# Altium integrated library Motorola Microcontroller 8-Bit.IntLib: 909 symbols (part 25 of 31)
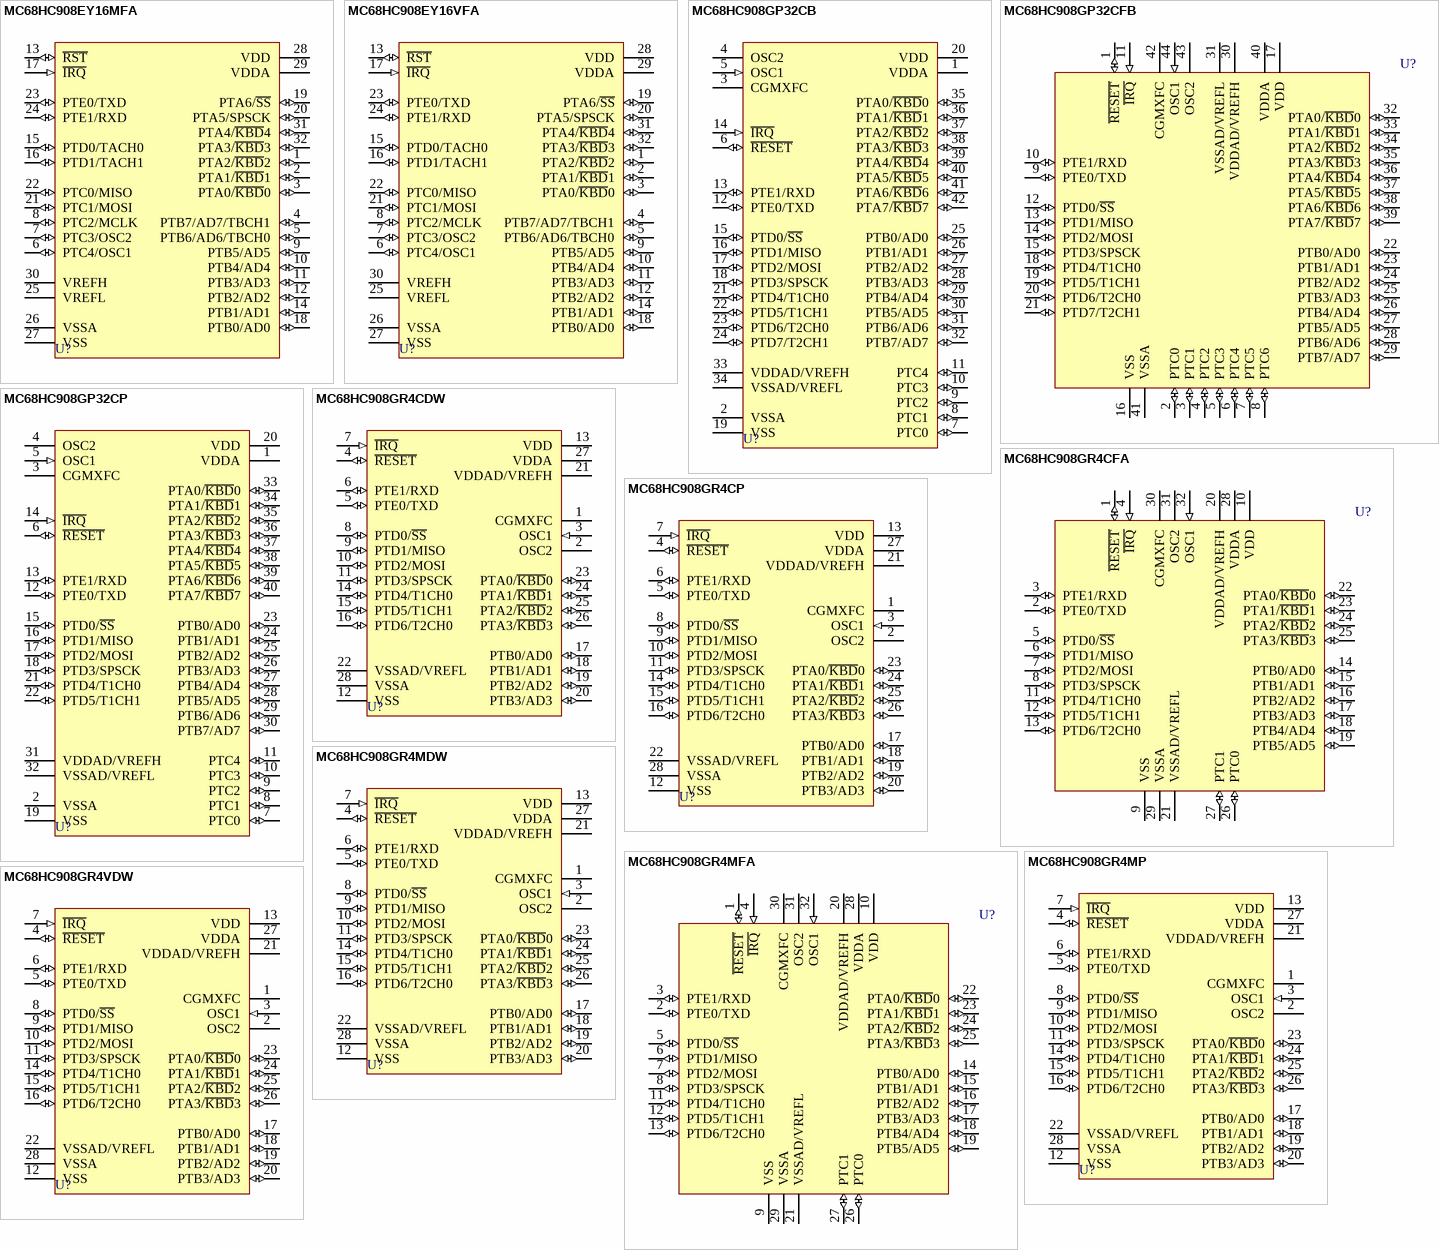
[diagram p137: symbols MC68HC908EY16MFA to MC68HC908GR4VDW]

## MC68HC908GP32CFB
designator U?
8-Bit Microcontroller; Note: Tie unused inputs & I/O ports to the appropriate logic level (either VDD or VSS ) to reduce the possibility of electro-static discharge damage.; Published: 17-Jan-2003; LatestRevisionDate: 13-Apr-2006; LatestRevisionNote: IPC-7351 Footprint Added.; DatasheetVersion: Rev 6, 8/2002; PackageVersion: rev5, Apr-2002; PackageReference: 824A-01; Publisher: Altium Limited; PackageDescription: 44-Pin Quad Flat Pack 0.8 mm Pitch; Code_JEDEC: MS-022-AB; Code_IPC: QFP80P1320X1320-44; ComponentLink1Description: Manufacturer Link; ComponentLink1URL: http://www.freescale.com/; ComponentLink2Description: Datasheet; ComponentLink2URL: http://www.freescale.com/files/microcontrollers/doc/data_sheet/MC68HC908GP32.pdf
footprint 824A-01_N (QFP, 44-Leads, Body 10x10mm, Pitch 0.8mm, IPC Medium Density)
footprint 824A-01_L (QFP, 44-Leads, Body 10x10mm, Pitch 0.8mm, IPC High Density)
footprint 824A-01_M (QFP, 44-Leads, Body 10x10mm, Pitch 0.8mm, IPC Low Density)
3D model MC68HC908-824A-01 (44-Pin Quad Flat Pack 0.8 mm Pitch)
pins: 1 ~{RESET} (io), 2 PTC0 (io), 3 PTC1 (io), 4 PTC2 (io), 5 PTC3 (io), 6 PTC4 (io), 7 PTC5 (io), 8 PTC6 (io), 9 PTE0/TXD (io), 10 PTE1/RXD (io), 11 ~{IRQ} (in), 12 PTD0/~{SS} (io), 13 PTD1/MISO (io), 14 PTD2/MOSI (io), 15 PTD3/SPSCK (io), 16 VSS (power), 17 VDD (power), 18 PTD4/T1CH0 (io), 19 PTD5/T1CH1 (io), 20 PTD6/T2CH0 (io), 21 PTD7/T2CH1 (io), 22 PTB0/AD0 (io), 23 PTB1/AD1 (io), 24 PTB2/AD2 (io), 25 PTB3/AD3 (io), 26 PTB4/AD4 (io), 27 PTB5/AD5 (io), 28 PTB6/AD6 (io), 29 PTB7/AD7 (io), 30 VDDAD/VREFH (power), 31 VSSAD/VREFL (power), 32 PTA0/~{KBD}0 (io), 33 PTA1/~{KBD}1 (io), 34 PTA2/~{KBD}2 (io), 35 PTA3/~{KBD}3 (io), 36 PTA4/~{KBD}4 (io), 37 PTA5/~{KBD}5 (io), 38 PTA6/~{KBD}6 (io), 39 PTA7/~{KBD}7 (io), 40 VDDA (power), 41 VSSA (power), 42 CGMXFC, 43 OSC2, 44 OSC1 (in)

## MC68HC908GP32CP
designator U?
8-Bit Microcontroller; Note: Tie unused inputs & I/O ports to the appropriate logic level (either VDD or VSS ) to reduce the possibility of electro-static discharge damage.; Published: 17-Jan-2003; LatestRevisionDate: 06-Jun-2005; LatestRevisionNote: Stylized 3D Model Added.; DatasheetVersion: Rev 6, 8/2002; PackageReference: 711-03; Publisher: Altium Limited; PackageDescription: DIP; 40 Leads; Row Spacing 15.24 mm; Pitch 2.54 mm; ComponentLink1Description: Manufacturer Link; ComponentLink1URL: http://www.freescale.com/; ComponentLink2Description: Datasheet; ComponentLink2URL: http://www.freescale.com/files/microcontrollers/doc/data_sheet/MC68HC908GP32.pdf
footprint 711-03 (DIP; 40 Leads; Row Spacing 15.24 mm; Pitch 2.54 mm)
3D model 711-03 (DIP; 40 Leads; Row Spacing 15.24 mm; Pitch 2.54 mm)
pins: 1 VDDA (power), 2 VSSA (power), 3 CGMXFC, 4 OSC2, 5 OSC1 (in), 6 ~{RESET} (io), 7 PTC0 (io), 8 PTC1 (io), 9 PTC2 (io), 10 PTC3 (io), 11 PTC4 (io), 12 PTE0/TXD (io), 13 PTE1/RXD (io), 14 ~{IRQ} (in), 15 PTD0/~{SS} (io), 16 PTD1/MISO (io), 17 PTD2/MOSI (io), 18 PTD3/SPSCK (io), 19 VSS (power), 20 VDD (power), 21 PTD4/T1CH0 (io), 22 PTD5/T1CH1 (io), 23 PTB0/AD0 (io), 24 PTB1/AD1 (io), 25 PTB2/AD2 (io), 26 PTB3/AD3 (io), 27 PTB4/AD4 (io), 28 PTB5/AD5 (io), 29 PTB6/AD6 (io), 30 PTB7/AD7 (io), 31 VDDAD/VREFH (power), 32 VSSAD/VREFL (power), 33 PTA0/~{KBD}0 (io), 34 PTA1/~{KBD}1 (io), 35 PTA2/~{KBD}2 (io), 36 PTA3/~{KBD}3 (io), 37 PTA4/~{KBD}4 (io), 38 PTA5/~{KBD}5 (io), 39 PTA6/~{KBD}6 (io), 40 PTA7/~{KBD}7 (io)

## MC68HC908GR4CDW
designator U?
8-Bit Microcontroller; Note: VREFH is internally connected with VDDAD (same potential as VDDAD).  VDDAD should be tied to the same potential as VDD via separate traces.; Note: VREFL is internally connected with VSSAD (same potential as VSSAD).  VSSAD should be tied to the same potential as VSS via separate traces.; Note: Tie unused inputs & I/O ports to the appropriate logic level (either VDD or VSS ) to reduce the possibility of electro-static discharge damage.; Published: 17-Jan-2003; LatestRevisionDate: 13-Apr-2006; LatestRevisionNote: IPC-7351 Footprint Added.; DatasheetVersion: Rev 4, 6/2002; PackageReference: 751F-03; Publisher: Altium Limited; PackageDescription: 28-Pin Small Outline Integrated Circuit 1.27 mm Pitch; ComponentLink1Description: Manufacturer Link; ComponentLink1URL: http://www.freescale.com/
footprint 751F-03_N (SOIC, 28-Leads, Body 17.9x7.5mm, Pitch 1.27mm, IPC Medium Density)
footprint 751F-03_L (SOIC, 28-Leads, Body 17.9x7.5mm, Pitch 1.27mm, IPC High Density)
footprint 751F-03_M (SOIC, 28-Leads, Body 17.9x7.5mm, Pitch 1.27mm, IPC Low Density)
3D model 751F-03 (28-Pin Small Outline Integrated Circuit 1.27 mm Pitch)
pins: 1 CGMXFC, 2 OSC2, 3 OSC1 (in), 4 ~{RESET} (io), 5 PTE0/TXD (io), 6 PTE1/RXD (io), 7 ~{IRQ} (in), 8 PTD0/~{SS} (io), 9 PTD1/MISO (io), 10 PTD2/MOSI (io), 11 PTD3/SPSCK (io), 12 VSS (power), 13 VDD (power), 14 PTD4/T1CH0 (io), 15 PTD5/T1CH1 (io), 16 PTD6/T2CH0 (io), 17 PTB0/AD0 (io), 18 PTB1/AD1 (io), 19 PTB2/AD2 (io), 20 PTB3/AD3 (io), 21 VDDAD/VREFH (power), 22 VSSAD/VREFL (power), 23 PTA0/~{KBD}0 (io), 24 PTA1/~{KBD}1 (io), 25 PTA2/~{KBD}2 (io), 26 PTA3/~{KBD}3 (io), 27 VDDA (power), 28 VSSA (power)

## MC68HC908GR4CFA
designator U?
8-Bit Microcontroller; Note: VREFH is internally connected with VDDAD (same potential as VDDAD).  VDDAD should be tied to the same potential as VDD via separate traces.; Note: VREFL is internally connected with VSSAD (same potential as VSSAD).  VSSAD should be tied to the same potential as VSS via separate traces.; Note: Tie unused inputs & I/O ports to the appropriate logic level (either VDD or VSS ) to reduce the possibility of electro-static discharge damage.; Published: 17-Jan-2003; LatestRevisionDate: 13-Apr-2006; LatestRevisionNote: IPC-7351 Footprint Added.; DatasheetVersion: Rev 4, 6/2002; PackageVersion: Aug-2001; PackageReference: 873A-02; Publisher: Altium Limited; PackageDescription: 32-Pin Thin Quad Flat Pack 0.8 mm Pitch; ComponentLink1Description: Manufacturer Link; ComponentLink1URL: http://www.freescale.com/
footprint 873A-02_N (Thin QFP, 32-Leads, Body 7x7mm, Pitch 0.8mm, IPC Medium Density)
footprint 873A-02_L (Thin QFP, 32-Leads, Body 7x7mm, Pitch 0.8mm, IPC High Density)
footprint 873A-02_M (Thin QFP, 32-Leads, Body 7x7mm, Pitch 0.8mm, IPC Low Density)
3D model MC68HC908-873A-02 (32-Pin Thin Quad Flat Pack 0.8 mm Pitch)
pins: 1 ~{RESET} (io), 2 PTE0/TXD (io), 3 PTE1/RXD (io), 4 ~{IRQ} (in), 5 PTD0/~{SS} (io), 6 PTD1/MISO (io), 7 PTD2/MOSI (io), 8 PTD3/SPSCK (io), 9 VSS (power), 10 VDD (power), 11 PTD4/T1CH0 (io), 12 PTD5/T1CH1 (io), 13 PTD6/T2CH0 (io), 14 PTB0/AD0 (io), 15 PTB1/AD1 (io), 16 PTB2/AD2 (io), 17 PTB3/AD3 (io), 18 PTB4/AD4 (io), 19 PTB5/AD5 (io), 20 VDDAD/VREFH (power), 21 VSSAD/VREFL (power), 22 PTA0/~{KBD}0 (io), 23 PTA1/~{KBD}1 (io), 24 PTA2/~{KBD}2 (io), 25 PTA3/~{KBD}3 (io), 26 PTC0 (io), 27 PTC1 (io), 28 VDDA (power), 29 VSSA (power), 30 CGMXFC, 31 OSC2, 32 OSC1 (in)

## MC68HC908GR4CP
designator U?
8-Bit Microcontroller; Note: VREFH is internally connected with VDDAD (same potential as VDDAD).  VDDAD should be tied to the same potential as VDD via separate traces.; Note: VREFL is internally connected with VSSAD (same potential as VSSAD).  VSSAD should be tied to the same potential as VSS via separate traces.; Note: Tie unused inputs & I/O ports to the appropriate logic level (either VDD or VSS ) to reduce the possibility of electro-static discharge damage.; Published: 17-Jan-2003; LatestRevisionDate: 06-Jun-2005; LatestRevisionNote: Stylized 3D Model Added.; DatasheetVersion: Rev 4, 6/2002; PackageReference: 710-02; Publisher: Altium Limited; PackageDescription: DIP; 28 Leads; Row Spacing 15.24 mm; Pitch 2.54 mm; ComponentLink1Description: Manufacturer Link; ComponentLink1URL: http://www.freescale.com/
footprint 710-02 (DIP; 28 Leads; Row Spacing 15.24 mm; Pitch 2.54 mm)
3D model 710-02 (DIP; 28 Leads; Row Spacing 15.24 mm; Pitch 2.54 mm)
pins: 1 CGMXFC, 2 OSC2, 3 OSC1 (in), 4 ~{RESET} (io), 5 PTE0/TXD (io), 6 PTE1/RXD (io), 7 ~{IRQ} (in), 8 PTD0/~{SS} (io), 9 PTD1/MISO (io), 10 PTD2/MOSI (io), 11 PTD3/SPSCK (io), 12 VSS (power), 13 VDD (power), 14 PTD4/T1CH0 (io), 15 PTD5/T1CH1 (io), 16 PTD6/T2CH0 (io), 17 PTB0/AD0 (io), 18 PTB1/AD1 (io), 19 PTB2/AD2 (io), 20 PTB3/AD3 (io), 21 VDDAD/VREFH (power), 22 VSSAD/VREFL (power), 23 PTA0/~{KBD}0 (io), 24 PTA1/~{KBD}1 (io), 25 PTA2/~{KBD}2 (io), 26 PTA3/~{KBD}3 (io), 27 VDDA (power), 28 VSSA (power)

## MC68HC908GR4MDW
designator U?
8-Bit Microcontroller; Note: VREFH is internally connected with VDDAD (same potential as VDDAD).  VDDAD should be tied to the same potential as VDD via separate traces.; Note: VREFL is internally connected with VSSAD (same potential as VSSAD).  VSSAD should be tied to the same potential as VSS via separate traces.; Note: Tie unused inputs & I/O ports to the appropriate logic level (either VDD or VSS ) to reduce the possibility of electro-static discharge damage.; Published: 17-Jan-2003; LatestRevisionDate: 13-Apr-2006; LatestRevisionNote: IPC-7351 Footprint Added.; DatasheetVersion: Rev 4, 6/2002; PackageReference: 751F-03; Publisher: Altium Limited; PackageDescription: 28-Pin Small Outline Integrated Circuit 1.27 mm Pitch; ComponentLink1Description: Manufacturer Link; ComponentLink1URL: http://www.freescale.com/
footprint 751F-03_N (SOIC, 28-Leads, Body 17.9x7.5mm, Pitch 1.27mm, IPC Medium Density)
footprint 751F-03_L (SOIC, 28-Leads, Body 17.9x7.5mm, Pitch 1.27mm, IPC High Density)
footprint 751F-03_M (SOIC, 28-Leads, Body 17.9x7.5mm, Pitch 1.27mm, IPC Low Density)
3D model 751F-03 (28-Pin Small Outline Integrated Circuit 1.27 mm Pitch)
pins: 1 CGMXFC, 2 OSC2, 3 OSC1 (in), 4 ~{RESET} (io), 5 PTE0/TXD (io), 6 PTE1/RXD (io), 7 ~{IRQ} (in), 8 PTD0/~{SS} (io), 9 PTD1/MISO (io), 10 PTD2/MOSI (io), 11 PTD3/SPSCK (io), 12 VSS (power), 13 VDD (power), 14 PTD4/T1CH0 (io), 15 PTD5/T1CH1 (io), 16 PTD6/T2CH0 (io), 17 PTB0/AD0 (io), 18 PTB1/AD1 (io), 19 PTB2/AD2 (io), 20 PTB3/AD3 (io), 21 VDDAD/VREFH (power), 22 VSSAD/VREFL (power), 23 PTA0/~{KBD}0 (io), 24 PTA1/~{KBD}1 (io), 25 PTA2/~{KBD}2 (io), 26 PTA3/~{KBD}3 (io), 27 VDDA (power), 28 VSSA (power)

## MC68HC908GR4MFA
designator U?
8-Bit Microcontroller; Note: VREFH is internally connected with VDDAD (same potential as VDDAD).  VDDAD should be tied to the same potential as VDD via separate traces.; Note: VREFL is internally connected with VSSAD (same potential as VSSAD).  VSSAD should be tied to the same potential as VSS via separate traces.; Note: Tie unused inputs & I/O ports to the appropriate logic level (either VDD or VSS ) to reduce the possibility of electro-static discharge damage.; Published: 17-Jan-2003; LatestRevisionDate: 13-Apr-2006; LatestRevisionNote: IPC-7351 Footprint Added.; DatasheetVersion: Rev 4, 6/2002; PackageVersion: Aug-2001; PackageReference: 873A-02; Publisher: Altium Limited; PackageDescription: 32-Pin Thin Quad Flat Pack 0.8 mm Pitch; ComponentLink1Description: Manufacturer Link; ComponentLink1URL: http://www.freescale.com/
footprint 873A-02_N (Thin QFP, 32-Leads, Body 7x7mm, Pitch 0.8mm, IPC Medium Density)
footprint 873A-02_L (Thin QFP, 32-Leads, Body 7x7mm, Pitch 0.8mm, IPC High Density)
footprint 873A-02_M (Thin QFP, 32-Leads, Body 7x7mm, Pitch 0.8mm, IPC Low Density)
3D model MC68HC908-873A-02 (32-Pin Thin Quad Flat Pack 0.8 mm Pitch)
pins: 1 ~{RESET} (io), 2 PTE0/TXD (io), 3 PTE1/RXD (io), 4 ~{IRQ} (in), 5 PTD0/~{SS} (io), 6 PTD1/MISO (io), 7 PTD2/MOSI (io), 8 PTD3/SPSCK (io), 9 VSS (power), 10 VDD (power), 11 PTD4/T1CH0 (io), 12 PTD5/T1CH1 (io), 13 PTD6/T2CH0 (io), 14 PTB0/AD0 (io), 15 PTB1/AD1 (io), 16 PTB2/AD2 (io), 17 PTB3/AD3 (io), 18 PTB4/AD4 (io), 19 PTB5/AD5 (io), 20 VDDAD/VREFH (power), 21 VSSAD/VREFL (power), 22 PTA0/~{KBD}0 (io), 23 PTA1/~{KBD}1 (io), 24 PTA2/~{KBD}2 (io), 25 PTA3/~{KBD}3 (io), 26 PTC0 (io), 27 PTC1 (io), 28 VDDA (power), 29 VSSA (power), 30 CGMXFC, 31 OSC2, 32 OSC1 (in)

## MC68HC908GR4MP
designator U?
8-Bit Microcontroller; Note: VREFH is internally connected with VDDAD (same potential as VDDAD).  VDDAD should be tied to the same potential as VDD via separate traces.; Note: VREFL is internally connected with VSSAD (same potential as VSSAD).  VSSAD should be tied to the same potential as VSS via separate traces.; Note: Tie unused inputs & I/O ports to the appropriate logic level (either VDD or VSS ) to reduce the possibility of electro-static discharge damage.; Published: 17-Jan-2003; LatestRevisionDate: 06-Jun-2005; LatestRevisionNote: Stylized 3D Model Added.; DatasheetVersion: Rev 4, 6/2002; PackageReference: 710-02; Publisher: Altium Limited; PackageDescription: DIP; 28 Leads; Row Spacing 15.24 mm; Pitch 2.54 mm; ComponentLink1Description: Manufacturer Link; ComponentLink1URL: http://www.freescale.com/
footprint 710-02 (DIP; 28 Leads; Row Spacing 15.24 mm; Pitch 2.54 mm)
3D model 710-02 (DIP; 28 Leads; Row Spacing 15.24 mm; Pitch 2.54 mm)
pins: 1 CGMXFC, 2 OSC2, 3 OSC1 (in), 4 ~{RESET} (io), 5 PTE0/TXD (io), 6 PTE1/RXD (io), 7 ~{IRQ} (in), 8 PTD0/~{SS} (io), 9 PTD1/MISO (io), 10 PTD2/MOSI (io), 11 PTD3/SPSCK (io), 12 VSS (power), 13 VDD (power), 14 PTD4/T1CH0 (io), 15 PTD5/T1CH1 (io), 16 PTD6/T2CH0 (io), 17 PTB0/AD0 (io), 18 PTB1/AD1 (io), 19 PTB2/AD2 (io), 20 PTB3/AD3 (io), 21 VDDAD/VREFH (power), 22 VSSAD/VREFL (power), 23 PTA0/~{KBD}0 (io), 24 PTA1/~{KBD}1 (io), 25 PTA2/~{KBD}2 (io), 26 PTA3/~{KBD}3 (io), 27 VDDA (power), 28 VSSA (power)

## MC68HC908GR4VDW
designator U?
8-Bit Microcontroller; Note: VREFH is internally connected with VDDAD (same potential as VDDAD).  VDDAD should be tied to the same potential as VDD via separate traces.; Note: VREFL is internally connected with VSSAD (same potential as VSSAD).  VSSAD should be tied to the same potential as VSS via separate traces.; Note: Tie unused inputs & I/O ports to the appropriate logic level (either VDD or VSS ) to reduce the possibility of electro-static discharge damage.; Published: 17-Jan-2003; LatestRevisionDate: 13-Apr-2006; LatestRevisionNote: IPC-7351 Footprint Added.; DatasheetVersion: Rev 4, 6/2002; PackageReference: 751F-03; Publisher: Altium Limited; PackageDescription: 28-Pin Small Outline Integrated Circuit 1.27 mm Pitch; ComponentLink1Description: Manufacturer Link; ComponentLink1URL: http://www.freescale.com/
footprint 751F-03_N (SOIC, 28-Leads, Body 17.9x7.5mm, Pitch 1.27mm, IPC Medium Density)
footprint 751F-03_L (SOIC, 28-Leads, Body 17.9x7.5mm, Pitch 1.27mm, IPC High Density)
footprint 751F-03_M (SOIC, 28-Leads, Body 17.9x7.5mm, Pitch 1.27mm, IPC Low Density)
3D model 751F-03 (28-Pin Small Outline Integrated Circuit 1.27 mm Pitch)
pins: 1 CGMXFC, 2 OSC2, 3 OSC1 (in), 4 ~{RESET} (io), 5 PTE0/TXD (io), 6 PTE1/RXD (io), 7 ~{IRQ} (in), 8 PTD0/~{SS} (io), 9 PTD1/MISO (io), 10 PTD2/MOSI (io), 11 PTD3/SPSCK (io), 12 VSS (power), 13 VDD (power), 14 PTD4/T1CH0 (io), 15 PTD5/T1CH1 (io), 16 PTD6/T2CH0 (io), 17 PTB0/AD0 (io), 18 PTB1/AD1 (io), 19 PTB2/AD2 (io), 20 PTB3/AD3 (io), 21 VDDAD/VREFH (power), 22 VSSAD/VREFL (power), 23 PTA0/~{KBD}0 (io), 24 PTA1/~{KBD}1 (io), 25 PTA2/~{KBD}2 (io), 26 PTA3/~{KBD}3 (io), 27 VDDA (power), 28 VSSA (power)

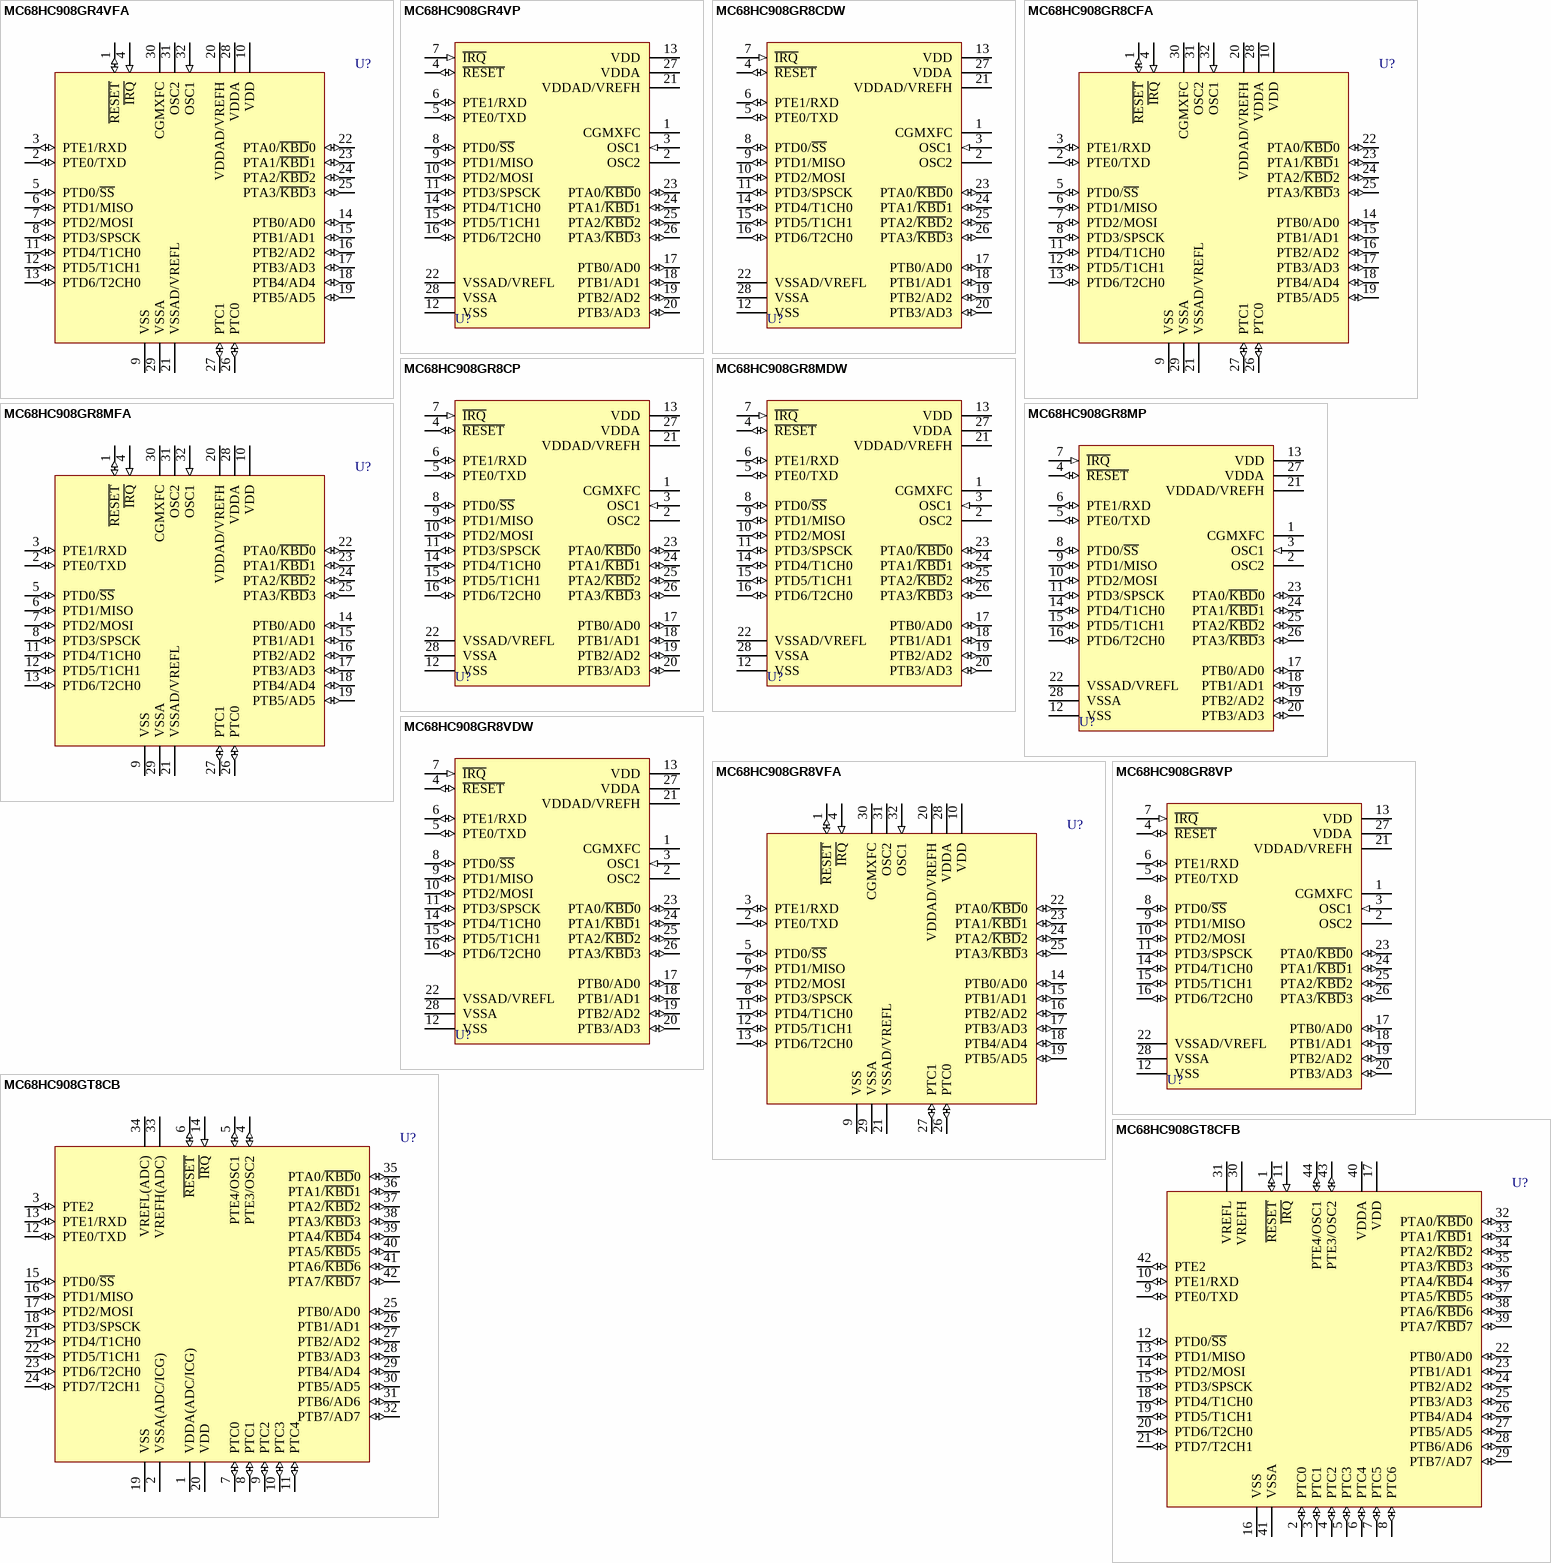
[diagram p94: symbols MC68HC908GR4VFA to MC68HC908GT8CFB]

## MC68HC908GR4VFA
designator U?
8-Bit Microcontroller; Note: VREFH is internally connected with VDDAD (same potential as VDDAD).  VDDAD should be tied to the same potential as VDD via separate traces.; Note: VREFL is internally connected with VSSAD (same potential as VSSAD).  VSSAD should be tied to the same potential as VSS via separate traces.; Note: Tie unused inputs & I/O ports to the appropriate logic level (either VDD or VSS ) to reduce the possibility of electro-static discharge damage.; Published: 17-Jan-2003; LatestRevisionDate: 13-Apr-2006; LatestRevisionNote: IPC-7351 Footprint Added.; DatasheetVersion: Rev 4, 6/2002; PackageVersion: Aug-2001; PackageReference: 873A-02; Publisher: Altium Limited; PackageDescription: 32-Pin Thin Quad Flat Pack 0.8 mm Pitch; ComponentLink1Description: Manufacturer Link; ComponentLink1URL: http://www.freescale.com/
footprint 873A-02_N (Thin QFP, 32-Leads, Body 7x7mm, Pitch 0.8mm, IPC Medium Density)
footprint 873A-02_L (Thin QFP, 32-Leads, Body 7x7mm, Pitch 0.8mm, IPC High Density)
footprint 873A-02_M (Thin QFP, 32-Leads, Body 7x7mm, Pitch 0.8mm, IPC Low Density)
3D model MC68HC908-873A-02 (32-Pin Thin Quad Flat Pack 0.8 mm Pitch)
pins: 1 ~{RESET} (io), 2 PTE0/TXD (io), 3 PTE1/RXD (io), 4 ~{IRQ} (in), 5 PTD0/~{SS} (io), 6 PTD1/MISO (io), 7 PTD2/MOSI (io), 8 PTD3/SPSCK (io), 9 VSS (power), 10 VDD (power), 11 PTD4/T1CH0 (io), 12 PTD5/T1CH1 (io), 13 PTD6/T2CH0 (io), 14 PTB0/AD0 (io), 15 PTB1/AD1 (io), 16 PTB2/AD2 (io), 17 PTB3/AD3 (io), 18 PTB4/AD4 (io), 19 PTB5/AD5 (io), 20 VDDAD/VREFH (power), 21 VSSAD/VREFL (power), 22 PTA0/~{KBD}0 (io), 23 PTA1/~{KBD}1 (io), 24 PTA2/~{KBD}2 (io), 25 PTA3/~{KBD}3 (io), 26 PTC0 (io), 27 PTC1 (io), 28 VDDA (power), 29 VSSA (power), 30 CGMXFC, 31 OSC2, 32 OSC1 (in)

## MC68HC908GR4VP
designator U?
8-Bit Microcontroller; Note: VREFH is internally connected with VDDAD (same potential as VDDAD).  VDDAD should be tied to the same potential as VDD via separate traces.; Note: VREFL is internally connected with VSSAD (same potential as VSSAD).  VSSAD should be tied to the same potential as VSS via separate traces.; Note: Tie unused inputs & I/O ports to the appropriate logic level (either VDD or VSS ) to reduce the possibility of electro-static discharge damage.; Published: 17-Jan-2003; LatestRevisionDate: 06-Jun-2005; LatestRevisionNote: Stylized 3D Model Added.; DatasheetVersion: Rev 4, 6/2002; PackageReference: 710-02; Publisher: Altium Limited; PackageDescription: DIP; 28 Leads; Row Spacing 15.24 mm; Pitch 2.54 mm; ComponentLink1Description: Manufacturer Link; ComponentLink1URL: http://www.freescale.com/
footprint 710-02 (DIP; 28 Leads; Row Spacing 15.24 mm; Pitch 2.54 mm)
3D model 710-02 (DIP; 28 Leads; Row Spacing 15.24 mm; Pitch 2.54 mm)
pins: 1 CGMXFC, 2 OSC2, 3 OSC1 (in), 4 ~{RESET} (io), 5 PTE0/TXD (io), 6 PTE1/RXD (io), 7 ~{IRQ} (in), 8 PTD0/~{SS} (io), 9 PTD1/MISO (io), 10 PTD2/MOSI (io), 11 PTD3/SPSCK (io), 12 VSS (power), 13 VDD (power), 14 PTD4/T1CH0 (io), 15 PTD5/T1CH1 (io), 16 PTD6/T2CH0 (io), 17 PTB0/AD0 (io), 18 PTB1/AD1 (io), 19 PTB2/AD2 (io), 20 PTB3/AD3 (io), 21 VDDAD/VREFH (power), 22 VSSAD/VREFL (power), 23 PTA0/~{KBD}0 (io), 24 PTA1/~{KBD}1 (io), 25 PTA2/~{KBD}2 (io), 26 PTA3/~{KBD}3 (io), 27 VDDA (power), 28 VSSA (power)

## MC68HC908GR8CDW
designator U?
8-Bit Microcontroller; Note: VREFH is internally connected with VDDAD (same potential as VDDAD).  VDDAD should be tied to the same potential as VDD via separate traces.; Note: VREFL is internally connected with VSSAD (same potential as VSSAD).  VSSAD should be tied to the same potential as VSS via separate traces.; Note: Tie unused inputs & I/O ports to the appropriate logic level (either VDD or VSS ) to reduce the possibility of electro-static discharge damage.; Published: 17-Jan-2003; LatestRevisionDate: 13-Apr-2006; LatestRevisionNote: IPC-7351 Footprint Added.; DatasheetVersion: Rev 4, 6/2002; PackageReference: 751F-03; Publisher: Altium Limited; PackageDescription: 28-Pin Small Outline Integrated Circuit 1.27 mm Pitch; ComponentLink1Description: Manufacturer Link; ComponentLink1URL: http://www.freescale.com/
footprint 751F-03_N (SOIC, 28-Leads, Body 17.9x7.5mm, Pitch 1.27mm, IPC Medium Density)
footprint 751F-03_L (SOIC, 28-Leads, Body 17.9x7.5mm, Pitch 1.27mm, IPC High Density)
footprint 751F-03_M (SOIC, 28-Leads, Body 17.9x7.5mm, Pitch 1.27mm, IPC Low Density)
3D model 751F-03 (28-Pin Small Outline Integrated Circuit 1.27 mm Pitch)
pins: 1 CGMXFC, 2 OSC2, 3 OSC1 (in), 4 ~{RESET} (io), 5 PTE0/TXD (io), 6 PTE1/RXD (io), 7 ~{IRQ} (in), 8 PTD0/~{SS} (io), 9 PTD1/MISO (io), 10 PTD2/MOSI (io), 11 PTD3/SPSCK (io), 12 VSS (power), 13 VDD (power), 14 PTD4/T1CH0 (io), 15 PTD5/T1CH1 (io), 16 PTD6/T2CH0 (io), 17 PTB0/AD0 (io), 18 PTB1/AD1 (io), 19 PTB2/AD2 (io), 20 PTB3/AD3 (io), 21 VDDAD/VREFH (power), 22 VSSAD/VREFL (power), 23 PTA0/~{KBD}0 (io), 24 PTA1/~{KBD}1 (io), 25 PTA2/~{KBD}2 (io), 26 PTA3/~{KBD}3 (io), 27 VDDA (power), 28 VSSA (power)

## MC68HC908GR8CFA
designator U?
8-Bit Microcontroller; Note: VREFH is internally connected with VDDAD (same potential as VDDAD).  VDDAD should be tied to the same potential as VDD via separate traces.; Note: VREFL is internally connected with VSSAD (same potential as VSSAD).  VSSAD should be tied to the same potential as VSS via separate traces.; Note: Tie unused inputs & I/O ports to the appropriate logic level (either VDD or VSS ) to reduce the possibility of electro-static discharge damage.; Published: 17-Jan-2003; LatestRevisionDate: 13-Apr-2006; LatestRevisionNote: IPC-7351 Footprint Added.; DatasheetVersion: Rev 4, 6/2002; PackageVersion: Aug-2001; PackageReference: 873A-02; Publisher: Altium Limited; PackageDescription: 32-Pin Thin Quad Flat Pack 0.8 mm Pitch; ComponentLink1Description: Manufacturer Link; ComponentLink1URL: http://www.freescale.com/
footprint 873A-02_N (Thin QFP, 32-Leads, Body 7x7mm, Pitch 0.8mm, IPC Medium Density)
footprint 873A-02_L (Thin QFP, 32-Leads, Body 7x7mm, Pitch 0.8mm, IPC High Density)
footprint 873A-02_M (Thin QFP, 32-Leads, Body 7x7mm, Pitch 0.8mm, IPC Low Density)
3D model MC68HC908-873A-02 (32-Pin Thin Quad Flat Pack 0.8 mm Pitch)
pins: 1 ~{RESET} (io), 2 PTE0/TXD (io), 3 PTE1/RXD (io), 4 ~{IRQ} (in), 5 PTD0/~{SS} (io), 6 PTD1/MISO (io), 7 PTD2/MOSI (io), 8 PTD3/SPSCK (io), 9 VSS (power), 10 VDD (power), 11 PTD4/T1CH0 (io), 12 PTD5/T1CH1 (io), 13 PTD6/T2CH0 (io), 14 PTB0/AD0 (io), 15 PTB1/AD1 (io), 16 PTB2/AD2 (io), 17 PTB3/AD3 (io), 18 PTB4/AD4 (io), 19 PTB5/AD5 (io), 20 VDDAD/VREFH (power), 21 VSSAD/VREFL (power), 22 PTA0/~{KBD}0 (io), 23 PTA1/~{KBD}1 (io), 24 PTA2/~{KBD}2 (io), 25 PTA3/~{KBD}3 (io), 26 PTC0 (io), 27 PTC1 (io), 28 VDDA (power), 29 VSSA (power), 30 CGMXFC, 31 OSC2, 32 OSC1 (in)

## MC68HC908GR8CP
designator U?
8-Bit Microcontroller; Note: VREFH is internally connected with VDDAD (same potential as VDDAD).  VDDAD should be tied to the same potential as VDD via separate traces.; Note: VREFL is internally connected with VSSAD (same potential as VSSAD).  VSSAD should be tied to the same potential as VSS via separate traces.; Note: Tie unused inputs & I/O ports to the appropriate logic level (either VDD or VSS ) to reduce the possibility of electro-static discharge damage.; Published: 17-Jan-2003; LatestRevisionDate: 06-Jun-2005; LatestRevisionNote: Stylized 3D Model Added.; DatasheetVersion: Rev 4, 6/2002; PackageReference: 710-02; Publisher: Altium Limited; PackageDescription: DIP; 28 Leads; Row Spacing 15.24 mm; Pitch 2.54 mm; ComponentLink1Description: Manufacturer Link; ComponentLink1URL: http://www.freescale.com/
footprint 710-02 (DIP; 28 Leads; Row Spacing 15.24 mm; Pitch 2.54 mm)
3D model 710-02 (DIP; 28 Leads; Row Spacing 15.24 mm; Pitch 2.54 mm)
pins: 1 CGMXFC, 2 OSC2, 3 OSC1 (in), 4 ~{RESET} (io), 5 PTE0/TXD (io), 6 PTE1/RXD (io), 7 ~{IRQ} (in), 8 PTD0/~{SS} (io), 9 PTD1/MISO (io), 10 PTD2/MOSI (io), 11 PTD3/SPSCK (io), 12 VSS (power), 13 VDD (power), 14 PTD4/T1CH0 (io), 15 PTD5/T1CH1 (io), 16 PTD6/T2CH0 (io), 17 PTB0/AD0 (io), 18 PTB1/AD1 (io), 19 PTB2/AD2 (io), 20 PTB3/AD3 (io), 21 VDDAD/VREFH (power), 22 VSSAD/VREFL (power), 23 PTA0/~{KBD}0 (io), 24 PTA1/~{KBD}1 (io), 25 PTA2/~{KBD}2 (io), 26 PTA3/~{KBD}3 (io), 27 VDDA (power), 28 VSSA (power)

## MC68HC908GR8MDW
designator U?
8-Bit Microcontroller; Note: VREFH is internally connected with VDDAD (same potential as VDDAD).  VDDAD should be tied to the same potential as VDD via separate traces.; Note: VREFL is internally connected with VSSAD (same potential as VSSAD).  VSSAD should be tied to the same potential as VSS via separate traces.; Note: Tie unused inputs & I/O ports to the appropriate logic level (either VDD or VSS ) to reduce the possibility of electro-static discharge damage.; Published: 17-Jan-2003; LatestRevisionDate: 13-Apr-2006; LatestRevisionNote: IPC-7351 Footprint Added.; DatasheetVersion: Rev 4, 6/2002; PackageReference: 751F-03; Publisher: Altium Limited; PackageDescription: 28-Pin Small Outline Integrated Circuit 1.27 mm Pitch; ComponentLink1Description: Manufacturer Link; ComponentLink1URL: http://www.freescale.com/
footprint 751F-03_N (SOIC, 28-Leads, Body 17.9x7.5mm, Pitch 1.27mm, IPC Medium Density)
footprint 751F-03_L (SOIC, 28-Leads, Body 17.9x7.5mm, Pitch 1.27mm, IPC High Density)
footprint 751F-03_M (SOIC, 28-Leads, Body 17.9x7.5mm, Pitch 1.27mm, IPC Low Density)
3D model 751F-03 (28-Pin Small Outline Integrated Circuit 1.27 mm Pitch)
pins: 1 CGMXFC, 2 OSC2, 3 OSC1 (in), 4 ~{RESET} (io), 5 PTE0/TXD (io), 6 PTE1/RXD (io), 7 ~{IRQ} (in), 8 PTD0/~{SS} (io), 9 PTD1/MISO (io), 10 PTD2/MOSI (io), 11 PTD3/SPSCK (io), 12 VSS (power), 13 VDD (power), 14 PTD4/T1CH0 (io), 15 PTD5/T1CH1 (io), 16 PTD6/T2CH0 (io), 17 PTB0/AD0 (io), 18 PTB1/AD1 (io), 19 PTB2/AD2 (io), 20 PTB3/AD3 (io), 21 VDDAD/VREFH (power), 22 VSSAD/VREFL (power), 23 PTA0/~{KBD}0 (io), 24 PTA1/~{KBD}1 (io), 25 PTA2/~{KBD}2 (io), 26 PTA3/~{KBD}3 (io), 27 VDDA (power), 28 VSSA (power)

## MC68HC908GR8MFA
designator U?
8-Bit Microcontroller; Note: VREFH is internally connected with VDDAD (same potential as VDDAD).  VDDAD should be tied to the same potential as VDD via separate traces.; Note: VREFL is internally connected with VSSAD (same potential as VSSAD).  VSSAD should be tied to the same potential as VSS via separate traces.; Note: Tie unused inputs & I/O ports to the appropriate logic level (either VDD or VSS ) to reduce the possibility of electro-static discharge damage.; Published: 17-Jan-2003; LatestRevisionDate: 13-Apr-2006; LatestRevisionNote: IPC-7351 Footprint Added.; DatasheetVersion: Rev 4, 6/2002; PackageVersion: Aug-2001; PackageReference: 873A-02; Publisher: Altium Limited; PackageDescription: 32-Pin Thin Quad Flat Pack 0.8 mm Pitch; ComponentLink1Description: Manufacturer Link; ComponentLink1URL: http://www.freescale.com/
footprint 873A-02_N (Thin QFP, 32-Leads, Body 7x7mm, Pitch 0.8mm, IPC Medium Density)
footprint 873A-02_L (Thin QFP, 32-Leads, Body 7x7mm, Pitch 0.8mm, IPC High Density)
footprint 873A-02_M (Thin QFP, 32-Leads, Body 7x7mm, Pitch 0.8mm, IPC Low Density)
3D model MC68HC908-873A-02 (32-Pin Thin Quad Flat Pack 0.8 mm Pitch)
pins: 1 ~{RESET} (io), 2 PTE0/TXD (io), 3 PTE1/RXD (io), 4 ~{IRQ} (in), 5 PTD0/~{SS} (io), 6 PTD1/MISO (io), 7 PTD2/MOSI (io), 8 PTD3/SPSCK (io), 9 VSS (power), 10 VDD (power), 11 PTD4/T1CH0 (io), 12 PTD5/T1CH1 (io), 13 PTD6/T2CH0 (io), 14 PTB0/AD0 (io), 15 PTB1/AD1 (io), 16 PTB2/AD2 (io), 17 PTB3/AD3 (io), 18 PTB4/AD4 (io), 19 PTB5/AD5 (io), 20 VDDAD/VREFH (power), 21 VSSAD/VREFL (power), 22 PTA0/~{KBD}0 (io), 23 PTA1/~{KBD}1 (io), 24 PTA2/~{KBD}2 (io), 25 PTA3/~{KBD}3 (io), 26 PTC0 (io), 27 PTC1 (io), 28 VDDA (power), 29 VSSA (power), 30 CGMXFC, 31 OSC2, 32 OSC1 (in)

## MC68HC908GR8MP
designator U?
8-Bit Microcontroller; Note: VREFH is internally connected with VDDAD (same potential as VDDAD).  VDDAD should be tied to the same potential as VDD via separate traces.; Note: VREFL is internally connected with VSSAD (same potential as VSSAD).  VSSAD should be tied to the same potential as VSS via separate traces.; Note: Tie unused inputs & I/O ports to the appropriate logic level (either VDD or VSS ) to reduce the possibility of electro-static discharge damage.; Published: 17-Jan-2003; LatestRevisionDate: 06-Jun-2005; LatestRevisionNote: Stylized 3D Model Added.; DatasheetVersion: Rev 4, 6/2002; PackageReference: 710-02; Publisher: Altium Limited; PackageDescription: DIP; 28 Leads; Row Spacing 15.24 mm; Pitch 2.54 mm; ComponentLink1Description: Manufacturer Link; ComponentLink1URL: http://www.freescale.com/
footprint 710-02 (DIP; 28 Leads; Row Spacing 15.24 mm; Pitch 2.54 mm)
3D model 710-02 (DIP; 28 Leads; Row Spacing 15.24 mm; Pitch 2.54 mm)
pins: 1 CGMXFC, 2 OSC2, 3 OSC1 (in), 4 ~{RESET} (io), 5 PTE0/TXD (io), 6 PTE1/RXD (io), 7 ~{IRQ} (in), 8 PTD0/~{SS} (io), 9 PTD1/MISO (io), 10 PTD2/MOSI (io), 11 PTD3/SPSCK (io), 12 VSS (power), 13 VDD (power), 14 PTD4/T1CH0 (io), 15 PTD5/T1CH1 (io), 16 PTD6/T2CH0 (io), 17 PTB0/AD0 (io), 18 PTB1/AD1 (io), 19 PTB2/AD2 (io), 20 PTB3/AD3 (io), 21 VDDAD/VREFH (power), 22 VSSAD/VREFL (power), 23 PTA0/~{KBD}0 (io), 24 PTA1/~{KBD}1 (io), 25 PTA2/~{KBD}2 (io), 26 PTA3/~{KBD}3 (io), 27 VDDA (power), 28 VSSA (power)

## MC68HC908GR8VDW
designator U?
8-Bit Microcontroller; Note: VREFH is internally connected with VDDAD (same potential as VDDAD).  VDDAD should be tied to the same potential as VDD via separate traces.; Note: VREFL is internally connected with VSSAD (same potential as VSSAD).  VSSAD should be tied to the same potential as VSS via separate traces.; Note: Tie unused inputs & I/O ports to the appropriate logic level (either VDD or VSS ) to reduce the possibility of electro-static discharge damage.; Published: 17-Jan-2003; LatestRevisionDate: 13-Apr-2006; LatestRevisionNote: IPC-7351 Footprint Added.; DatasheetVersion: Rev 4, 6/2002; PackageReference: 751F-03; Publisher: Altium Limited; PackageDescription: 28-Pin Small Outline Integrated Circuit 1.27 mm Pitch; ComponentLink1Description: Manufacturer Link; ComponentLink1URL: http://www.freescale.com/
footprint 751F-03_N (SOIC, 28-Leads, Body 17.9x7.5mm, Pitch 1.27mm, IPC Medium Density)
footprint 751F-03_L (SOIC, 28-Leads, Body 17.9x7.5mm, Pitch 1.27mm, IPC High Density)
footprint 751F-03_M (SOIC, 28-Leads, Body 17.9x7.5mm, Pitch 1.27mm, IPC Low Density)
3D model 751F-03 (28-Pin Small Outline Integrated Circuit 1.27 mm Pitch)
pins: 1 CGMXFC, 2 OSC2, 3 OSC1 (in), 4 ~{RESET} (io), 5 PTE0/TXD (io), 6 PTE1/RXD (io), 7 ~{IRQ} (in), 8 PTD0/~{SS} (io), 9 PTD1/MISO (io), 10 PTD2/MOSI (io), 11 PTD3/SPSCK (io), 12 VSS (power), 13 VDD (power), 14 PTD4/T1CH0 (io), 15 PTD5/T1CH1 (io), 16 PTD6/T2CH0 (io), 17 PTB0/AD0 (io), 18 PTB1/AD1 (io), 19 PTB2/AD2 (io), 20 PTB3/AD3 (io), 21 VDDAD/VREFH (power), 22 VSSAD/VREFL (power), 23 PTA0/~{KBD}0 (io), 24 PTA1/~{KBD}1 (io), 25 PTA2/~{KBD}2 (io), 26 PTA3/~{KBD}3 (io), 27 VDDA (power), 28 VSSA (power)

## MC68HC908GR8VFA
designator U?
8-Bit Microcontroller; Note: VREFH is internally connected with VDDAD (same potential as VDDAD).  VDDAD should be tied to the same potential as VDD via separate traces.; Note: VREFL is internally connected with VSSAD (same potential as VSSAD).  VSSAD should be tied to the same potential as VSS via separate traces.; Note: Tie unused inputs & I/O ports to the appropriate logic level (either VDD or VSS ) to reduce the possibility of electro-static discharge damage.; Published: 17-Jan-2003; LatestRevisionDate: 13-Apr-2006; LatestRevisionNote: IPC-7351 Footprint Added.; DatasheetVersion: Rev 4, 6/2002; PackageVersion: Aug-2001; PackageReference: 873A-02; Publisher: Altium Limited; PackageDescription: 32-Pin Thin Quad Flat Pack 0.8 mm Pitch; ComponentLink1Description: Manufacturer Link; ComponentLink1URL: http://www.freescale.com/
footprint 873A-02_N (Thin QFP, 32-Leads, Body 7x7mm, Pitch 0.8mm, IPC Medium Density)
footprint 873A-02_L (Thin QFP, 32-Leads, Body 7x7mm, Pitch 0.8mm, IPC High Density)
footprint 873A-02_M (Thin QFP, 32-Leads, Body 7x7mm, Pitch 0.8mm, IPC Low Density)
3D model MC68HC908-873A-02 (32-Pin Thin Quad Flat Pack 0.8 mm Pitch)
pins: 1 ~{RESET} (io), 2 PTE0/TXD (io), 3 PTE1/RXD (io), 4 ~{IRQ} (in), 5 PTD0/~{SS} (io), 6 PTD1/MISO (io), 7 PTD2/MOSI (io), 8 PTD3/SPSCK (io), 9 VSS (power), 10 VDD (power), 11 PTD4/T1CH0 (io), 12 PTD5/T1CH1 (io), 13 PTD6/T2CH0 (io), 14 PTB0/AD0 (io), 15 PTB1/AD1 (io), 16 PTB2/AD2 (io), 17 PTB3/AD3 (io), 18 PTB4/AD4 (io), 19 PTB5/AD5 (io), 20 VDDAD/VREFH (power), 21 VSSAD/VREFL (power), 22 PTA0/~{KBD}0 (io), 23 PTA1/~{KBD}1 (io), 24 PTA2/~{KBD}2 (io), 25 PTA3/~{KBD}3 (io), 26 PTC0 (io), 27 PTC1 (io), 28 VDDA (power), 29 VSSA (power), 30 CGMXFC, 31 OSC2, 32 OSC1 (in)

## MC68HC908GR8VP
designator U?
8-Bit Microcontroller; Note: VREFH is internally connected with VDDAD (same potential as VDDAD).  VDDAD should be tied to the same potential as VDD via separate traces.; Note: VREFL is internally connected with VSSAD (same potential as VSSAD).  VSSAD should be tied to the same potential as VSS via separate traces.; Note: Tie unused inputs & I/O ports to the appropriate logic level (either VDD or VSS ) to reduce the possibility of electro-static discharge damage.; Published: 17-Jan-2003; LatestRevisionDate: 06-Jun-2005; LatestRevisionNote: Stylized 3D Model Added.; DatasheetVersion: Rev 4, 6/2002; PackageReference: 710-02; Publisher: Altium Limited; PackageDescription: DIP; 28 Leads; Row Spacing 15.24 mm; Pitch 2.54 mm; ComponentLink1Description: Manufacturer Link; ComponentLink1URL: http://www.freescale.com/
footprint 710-02 (DIP; 28 Leads; Row Spacing 15.24 mm; Pitch 2.54 mm)
3D model 710-02 (DIP; 28 Leads; Row Spacing 15.24 mm; Pitch 2.54 mm)
pins: 1 CGMXFC, 2 OSC2, 3 OSC1 (in), 4 ~{RESET} (io), 5 PTE0/TXD (io), 6 PTE1/RXD (io), 7 ~{IRQ} (in), 8 PTD0/~{SS} (io), 9 PTD1/MISO (io), 10 PTD2/MOSI (io), 11 PTD3/SPSCK (io), 12 VSS (power), 13 VDD (power), 14 PTD4/T1CH0 (io), 15 PTD5/T1CH1 (io), 16 PTD6/T2CH0 (io), 17 PTB0/AD0 (io), 18 PTB1/AD1 (io), 19 PTB2/AD2 (io), 20 PTB3/AD3 (io), 21 VDDAD/VREFH (power), 22 VSSAD/VREFL (power), 23 PTA0/~{KBD}0 (io), 24 PTA1/~{KBD}1 (io), 25 PTA2/~{KBD}2 (io), 26 PTA3/~{KBD}3 (io), 27 VDDA (power), 28 VSSA (power)

## MC68HC908GT8CB
designator U?
8-Bit Microcontroller; Note: Tie unused inputs & I/O ports to the appropriate logic level (either VDD or VSS ) to reduce the possibility of electro-static discharge damage.; Published: 17-Jan-2003; LatestRevisionDate: 06-Jun-2005; LatestRevisionNote: Stylized 3D Model Added.; DatasheetVersion: Rev 2, 6/2002; PackageVersion: rev5, Apr-2002; PackageReference: 858-01; Publisher: Altium Limited; PackageDescription: DIP, Plastic; 42 Leads; Row Spacing 15.24 mm; Pitch 1.778 mm; ComponentLink1Description: Manufacturer Link; ComponentLink1URL: http://www.freescale.com/; ComponentLink2Description: Datasheet; ComponentLink2URL: http://www.freescale.com/files/microcontrollers/doc/data_sheet/MC68HC908GT16.pdf
footprint 858-01 (DIP, Plastic; 42 Leads; Row Spacing 15.24 mm; Pitch 1.778 mm)
3D model 858-01 (DIP, Plastic; 42 Leads; Row Spacing 15.24 mm; Pitch 1.778 mm)
pins: 1 VDDA(ADC/ICG) (power), 2 VSSA(ADC/ICG) (power), 3 PTE2 (io), 4 PTE3/OSC2 (io), 5 PTE4/OSC1 (io), 6 ~{RESET} (io), 7 PTC0 (io), 8 PTC1 (io), 9 PTC2 (io), 10 PTC3 (io), 11 PTC4 (io), 12 PTE0/TXD (io), 13 PTE1/RXD (io), 14 ~{IRQ} (in), 15 PTD0/~{SS} (io), 16 PTD1/MISO (io), 17 PTD2/MOSI (io), 18 PTD3/SPSCK (io), 19 VSS (power), 20 VDD (power), 21 PTD4/T1CH0 (io), 22 PTD5/T1CH1 (io), 23 PTD6/T2CH0 (io), 24 PTD7/T2CH1 (io), 25 PTB0/AD0 (io), 26 PTB1/AD1 (io), 27 PTB2/AD2 (io), 28 PTB3/AD3 (io), 29 PTB4/AD4 (io), 30 PTB5/AD5 (io), 31 PTB6/AD6 (io), 32 PTB7/AD7 (io), 33 VREFH(ADC) (power), 34 VREFL(ADC) (power), 35 PTA0/~{KBD}0 (io), 36 PTA1/~{KBD}1 (io), 37 PTA2/~{KBD}2 (io), 38 PTA3/~{KBD}3 (io), 39 PTA4/~{KBD}4 (io), 40 PTA5/~{KBD}5 (io), 41 PTA6/~{KBD}6 (io), 42 PTA7/~{KBD}7 (io)

## MC68HC908GT8CFB
designator U?
8-Bit Microcontroller; Note: Tie unused inputs & I/O ports to the appropriate logic level (either VDD or VSS ) to reduce the possibility of electro-static discharge damage.; Published: 17-Jan-2003; LatestRevisionDate: 13-Apr-2006; LatestRevisionNote: IPC-7351 Footprint Added.; DatasheetVersion: Rev 2, 6/2002; PackageVersion: rev5, Apr-2002; PackageReference: 824A-01; Publisher: Altium Limited; PackageDescription: 44-Pin Quad Flat Pack 0.8 mm Pitch; Code_JEDEC: MS-022-AB; Code_IPC: QFP80P1320X1320-44; ComponentLink1Description: Manufacturer Link; ComponentLink1URL: http://www.freescale.com/; ComponentLink2Description: Datasheet; ComponentLink2URL: http://www.freescale.com/files/microcontrollers/doc/data_sheet/MC68HC908GT16.pdf
footprint 824A-01_N (QFP, 44-Leads, Body 10x10mm, Pitch 0.8mm, IPC Medium Density)
footprint 824A-01_L (QFP, 44-Leads, Body 10x10mm, Pitch 0.8mm, IPC High Density)
footprint 824A-01_M (QFP, 44-Leads, Body 10x10mm, Pitch 0.8mm, IPC Low Density)
3D model MC68HC908-824A-01 (44-Pin Quad Flat Pack 0.8 mm Pitch)
pins: 1 ~{RESET} (io), 2 PTC0 (io), 3 PTC1 (io), 4 PTC2 (io), 5 PTC3 (io), 6 PTC4 (io), 7 PTC5 (io), 8 PTC6 (io), 9 PTE0/TXD (io), 10 PTE1/RXD (io), 11 ~{IRQ} (in), 12 PTD0/~{SS} (io), 13 PTD1/MISO (io), 14 PTD2/MOSI (io), 15 PTD3/SPSCK (io), 16 VSS (power), 17 VDD (power), 18 PTD4/T1CH0 (io), 19 PTD5/T1CH1 (io), 20 PTD6/T2CH0 (io), 21 PTD7/T2CH1 (io), 22 PTB0/AD0 (io), 23 PTB1/AD1 (io), 24 PTB2/AD2 (io), 25 PTB3/AD3 (io), 26 PTB4/AD4 (io), 27 PTB5/AD5 (io), 28 PTB6/AD6 (io), 29 PTB7/AD7 (io), 30 VREFH (power), 31 VREFL (power), 32 PTA0/~{KBD}0 (io), 33 PTA1/~{KBD}1 (io), 34 PTA2/~{KBD}2 (io), 35 PTA3/~{KBD}3 (io), 36 PTA4/~{KBD}4 (io), 37 PTA5/~{KBD}5 (io), 38 PTA6/~{KBD}6 (io), 39 PTA7/~{KBD}7 (io), 40 VDDA (power), 41 VSSA (power), 42 PTE2 (io), 43 PTE3/OSC2 (io), 44 PTE4/OSC1 (io)

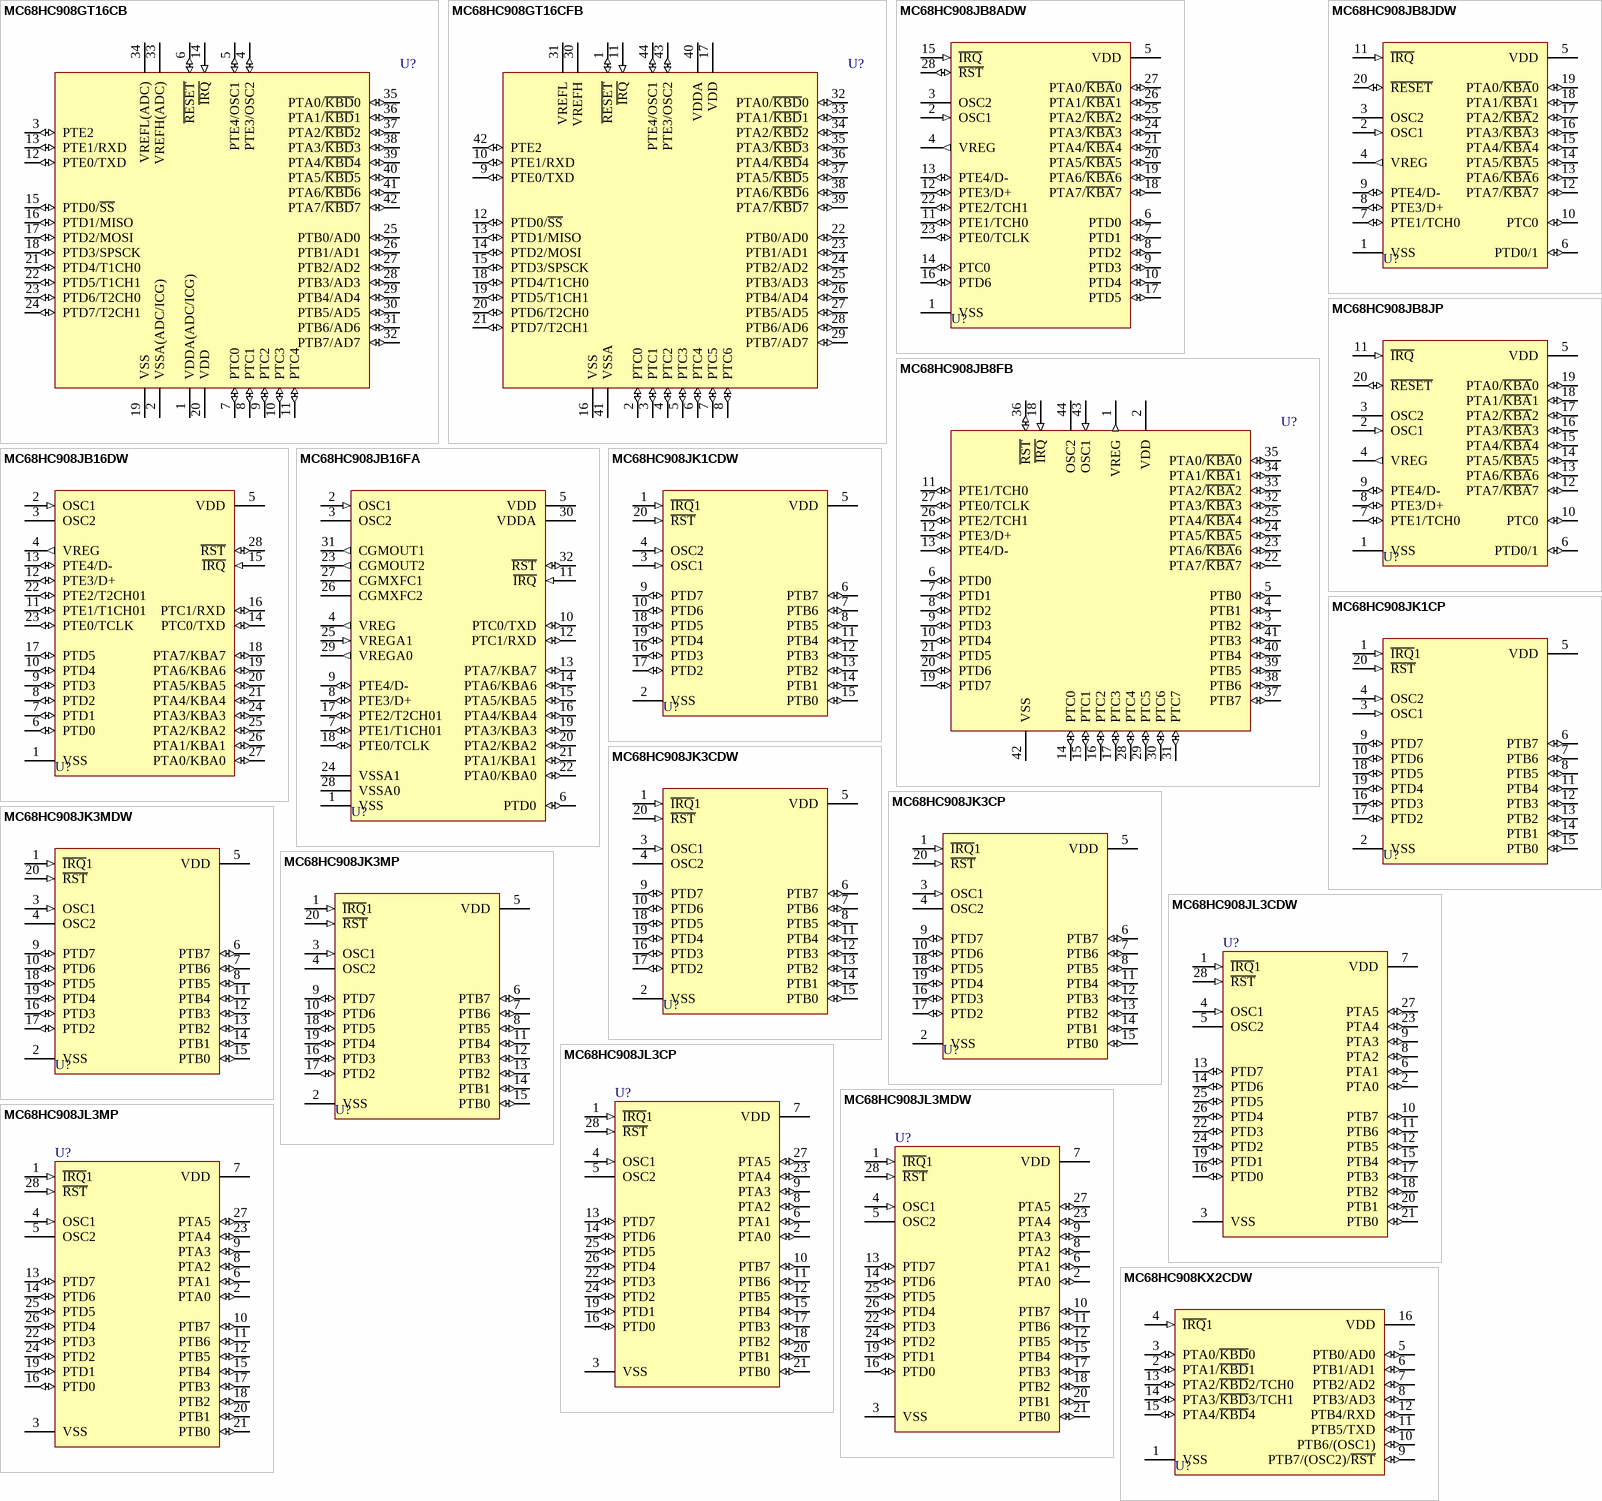
[diagram p95: symbols MC68HC908GT16CB to MC68HC908KX2CDW]

## MC68HC908GT16CB
designator U?
8-Bit Microcontroller; Note: Tie unused inputs & I/O ports to the appropriate logic level (either VDD or VSS ) to reduce the possibility of electro-static discharge damage.; Published: 17-Jan-2003; LatestRevisionDate: 06-Jun-2005; LatestRevisionNote: Stylized 3D Model Added.; DatasheetVersion: Rev 2, 6/2002; PackageVersion: rev5, Apr-2002; PackageReference: 858-01; Publisher: Altium Limited; PackageDescription: DIP, Plastic; 42 Leads; Row Spacing 15.24 mm; Pitch 1.778 mm; ComponentLink1Description: Manufacturer Link; ComponentLink1URL: http://www.freescale.com/; ComponentLink2Description: Datasheet; ComponentLink2URL: http://www.freescale.com/files/microcontrollers/doc/data_sheet/MC68HC908GT16.pdf
footprint 858-01 (DIP, Plastic; 42 Leads; Row Spacing 15.24 mm; Pitch 1.778 mm)
3D model 858-01 (DIP, Plastic; 42 Leads; Row Spacing 15.24 mm; Pitch 1.778 mm)
pins: 1 VDDA(ADC/ICG) (power), 2 VSSA(ADC/ICG) (power), 3 PTE2 (io), 4 PTE3/OSC2 (io), 5 PTE4/OSC1 (io), 6 ~{RESET} (io), 7 PTC0 (io), 8 PTC1 (io), 9 PTC2 (io), 10 PTC3 (io), 11 PTC4 (io), 12 PTE0/TXD (io), 13 PTE1/RXD (io), 14 ~{IRQ} (in), 15 PTD0/~{SS} (io), 16 PTD1/MISO (io), 17 PTD2/MOSI (io), 18 PTD3/SPSCK (io), 19 VSS (power), 20 VDD (power), 21 PTD4/T1CH0 (io), 22 PTD5/T1CH1 (io), 23 PTD6/T2CH0 (io), 24 PTD7/T2CH1 (io), 25 PTB0/AD0 (io), 26 PTB1/AD1 (io), 27 PTB2/AD2 (io), 28 PTB3/AD3 (io), 29 PTB4/AD4 (io), 30 PTB5/AD5 (io), 31 PTB6/AD6 (io), 32 PTB7/AD7 (io), 33 VREFH(ADC) (power), 34 VREFL(ADC) (power), 35 PTA0/~{KBD}0 (io), 36 PTA1/~{KBD}1 (io), 37 PTA2/~{KBD}2 (io), 38 PTA3/~{KBD}3 (io), 39 PTA4/~{KBD}4 (io), 40 PTA5/~{KBD}5 (io), 41 PTA6/~{KBD}6 (io), 42 PTA7/~{KBD}7 (io)

## MC68HC908GT16CFB
designator U?
8-Bit Microcontroller; Note: Tie unused inputs & I/O ports to the appropriate logic level (either VDD or VSS ) to reduce the possibility of electro-static discharge damage.; Published: 17-Jan-2003; LatestRevisionDate: 13-Apr-2006; LatestRevisionNote: IPC-7351 Footprint Added.; DatasheetVersion: Rev 2, 6/2002; PackageVersion: rev5, Apr-2002; PackageReference: 824A-01; Publisher: Altium Limited; PackageDescription: 44-Pin Quad Flat Pack 0.8 mm Pitch; Code_JEDEC: MS-022-AB; Code_IPC: QFP80P1320X1320-44; ComponentLink1Description: Manufacturer Link; ComponentLink1URL: http://www.freescale.com/; ComponentLink2Description: Datasheet; ComponentLink2URL: http://www.freescale.com/files/microcontrollers/doc/data_sheet/MC68HC908GT16.pdf
footprint 824A-01_N (QFP, 44-Leads, Body 10x10mm, Pitch 0.8mm, IPC Medium Density)
footprint 824A-01_L (QFP, 44-Leads, Body 10x10mm, Pitch 0.8mm, IPC High Density)
footprint 824A-01_M (QFP, 44-Leads, Body 10x10mm, Pitch 0.8mm, IPC Low Density)
3D model MC68HC908-824A-01 (44-Pin Quad Flat Pack 0.8 mm Pitch)
pins: 1 ~{RESET} (io), 2 PTC0 (io), 3 PTC1 (io), 4 PTC2 (io), 5 PTC3 (io), 6 PTC4 (io), 7 PTC5 (io), 8 PTC6 (io), 9 PTE0/TXD (io), 10 PTE1/RXD (io), 11 ~{IRQ} (in), 12 PTD0/~{SS} (io), 13 PTD1/MISO (io), 14 PTD2/MOSI (io), 15 PTD3/SPSCK (io), 16 VSS (power), 17 VDD (power), 18 PTD4/T1CH0 (io), 19 PTD5/T1CH1 (io), 20 PTD6/T2CH0 (io), 21 PTD7/T2CH1 (io), 22 PTB0/AD0 (io), 23 PTB1/AD1 (io), 24 PTB2/AD2 (io), 25 PTB3/AD3 (io), 26 PTB4/AD4 (io), 27 PTB5/AD5 (io), 28 PTB6/AD6 (io), 29 PTB7/AD7 (io), 30 VREFH (power), 31 VREFL (power), 32 PTA0/~{KBD}0 (io), 33 PTA1/~{KBD}1 (io), 34 PTA2/~{KBD}2 (io), 35 PTA3/~{KBD}3 (io), 36 PTA4/~{KBD}4 (io), 37 PTA5/~{KBD}5 (io), 38 PTA6/~{KBD}6 (io), 39 PTA7/~{KBD}7 (io), 40 VDDA (power), 41 VSSA (power), 42 PTE2 (io), 43 PTE3/OSC2 (io), 44 PTE4/OSC1 (io)

## MC68HC908JB8ADW
designator U?
8-Bit Microcontroller; Published: 17-Jan-2003; LatestRevisionDate: 13-Apr-2006; LatestRevisionNote: IPC-7351 Footprint Added.; DatasheetVersion: Rev 2, 2/2002; PackageReference: 751F-03; Publisher: Altium Limited; PackageDescription: 28-Pin Small Outline Integrated Circuit 1.27 mm Pitch; ComponentLink1Description: Manufacturer Link; ComponentLink1URL: http://www.freescale.com/; ComponentLink2Description: Datasheet; ComponentLink2URL: http://www.freescale.com/files/microcontrollers/doc/data_sheet/MC68HC908JB8.pdf
footprint 751F-03_N (SOIC, 28-Leads, Body 17.9x7.5mm, Pitch 1.27mm, IPC Medium Density)
footprint 751F-03_L (SOIC, 28-Leads, Body 17.9x7.5mm, Pitch 1.27mm, IPC High Density)
footprint 751F-03_M (SOIC, 28-Leads, Body 17.9x7.5mm, Pitch 1.27mm, IPC Low Density)
3D model 751F-03 (28-Pin Small Outline Integrated Circuit 1.27 mm Pitch)
pins: 1 VSS (power), 2 OSC1 (in), 3 OSC2, 4 VREG (out), 5 VDD (power), 6 PTD0 (io), 7 PTD1 (io), 8 PTD2 (io), 9 PTD3 (io), 10 PTD4 (io), 11 PTE1/TCH0 (io), 12 PTE3/D+ (io), 13 PTE4/D- (io), 14 PTC0 (io), 15 ~{IRQ} (in), 16 PTD6 (io), 17 PTD5 (io), 18 PTA7/~{KBA}7 (io), 19 PTA6/~{KBA}6 (io), 20 PTA5/~{KBA}5 (io), 21 PTA4/~{KBA}4 (io), 22 PTE2/TCH1 (io), 23 PTE0/TCLK (io), 24 PTA3/~{KBA}3 (io), 25 PTA2/~{KBA}2 (io), 26 PTA1/~{KBA}1 (io), 27 PTA0/~{KBA}0 (io), 28 ~{RST} (io)

## MC68HC908JB8FB
designator U?
8-Bit Microcontroller; Published: 17-Jan-2003; LatestRevisionDate: 13-Apr-2006; LatestRevisionNote: IPC-7351 Footprint Added.; DatasheetVersion: Rev 2, 2/2002; PackageVersion: rev5, Apr-2002; PackageReference: 824A-01; Publisher: Altium Limited; PackageDescription: 44-Pin Quad Flat Pack 0.8 mm Pitch; Code_JEDEC: MS-022-AB; Code_IPC: QFP80P1320X1320-44; ComponentLink1Description: Manufacturer Link; ComponentLink1URL: http://www.freescale.com/; ComponentLink2Description: Datasheet; ComponentLink2URL: http://www.freescale.com/files/microcontrollers/doc/data_sheet/MC68HC908JB8.pdf
footprint 824A-01_N (QFP, 44-Leads, Body 10x10mm, Pitch 0.8mm, IPC Medium Density)
footprint 824A-01_L (QFP, 44-Leads, Body 10x10mm, Pitch 0.8mm, IPC High Density)
footprint 824A-01_M (QFP, 44-Leads, Body 10x10mm, Pitch 0.8mm, IPC Low Density)
3D model MC68HC908-824A-01 (44-Pin Quad Flat Pack 0.8 mm Pitch)
pins: 1 VREG (out), 2 VDD (power), 3 PTB2 (io), 4 PTB1 (io), 5 PTB0 (io), 6 PTD0 (io), 7 PTD1 (io), 8 PTD2 (io), 9 PTD3 (io), 10 PTD4 (io), 11 PTE1/TCH0 (io), 12 PTE3/D+ (io), 13 PTE4/D- (io), 14 PTC0 (io), 15 PTC1 (io), 16 PTC2 (io), 17 PTC3 (io), 18 ~{IRQ} (in), 19 PTD7 (io), 20 PTD6 (io), 21 PTD5 (io), 22 PTA7/~{KBA}7 (io), 23 PTA6/~{KBA}6 (io), 24 PTA5/~{KBA}5 (io), 25 PTA4/~{KBA}4 (io), 26 PTE2/TCH1 (io), 27 PTE0/TCLK (io), 28 PTC4 (io), 29 PTC5 (io), 30 PTC6 (io), 31 PTC7 (io), 32 PTA3/~{KBA}3 (io), 33 PTA2/~{KBA}2 (io), 34 PTA1/~{KBA}1 (io), 35 PTA0/~{KBA}0 (io), 36 ~{RST} (io), 37 PTB7 (io), 38 PTB6 (io), 39 PTB5 (io), 40 PTB4 (io), 41 PTB3 (io), 42 VSS (power), 43 OSC1 (in), 44 OSC2

## MC68HC908JB8JDW
designator U?
8-Bit Microcontroller; Published: 17-Jan-2003; LatestRevisionDate: 13-Apr-2006; LatestRevisionNote: IPC-7351 Footprint Added.; DatasheetVersion: Rev 2, 2/2002; PackageVersion: rev4.0, 2001; PackageReference: 751D-05; Publisher: Altium Limited; PackageDescription: 20-Pin Plastic Small Outline Integrated Circuit 1.27 mm Pitch; ComponentLink1Description: Manufacturer Link; ComponentLink1URL: http://www.freescale.com/; ComponentLink2Description: Datasheet; ComponentLink2URL: http://www.freescale.com/files/microcontrollers/doc/data_sheet/MC68HC908JB8.pdf
footprint 751D-05_N (SOIC, 20-Leads, Body 12.8x7.5mm, Pitch 1.27mm, IPC Medium Density)
footprint 751D-05_L (SOIC, 20-Leads, Body 12.8x7.5mm, Pitch 1.27mm, IPC High Density)
footprint 751D-05_M (SOIC, 20-Leads, Body 12.8x7.5mm, Pitch 1.27mm, IPC Low Density)
3D model 751D-05 (20-Pin Plastic Small Outline Integrated Circuit 1.27 mm Pitch)
pins: 1 VSS (power), 2 OSC1 (in), 3 OSC2, 4 VREG (out), 5 VDD (power), 6 PTD0/1 (io), 7 PTE1/TCH0 (io), 8 PTE3/D+ (io), 9 PTE4/D- (io), 10 PTC0 (io), 11 ~{IRQ} (in), 12 PTA7/~{KBA}7 (io), 13 PTA6/~{KBA}6 (io), 14 PTA5/~{KBA}5 (io), 15 PTA4/~{KBA}4 (io), 16 PTA3/~{KBA}3 (io), 17 PTA2/~{KBA}2 (io), 18 PTA1/~{KBA}1 (io), 19 PTA0/~{KBA}0 (io), 20 ~{RESET} (io)

## MC68HC908JB8JP
designator U?
8-Bit Microcontroller; Published: 17-Jan-2003; LatestRevisionDate: 06-Jun-2005; LatestRevisionNote: Stylized 3D Model Added.; DatasheetVersion: Rev 2, 2/2002; PackageReference: 738-03; Publisher: Altium Limited; PackageDescription: DIP; 20 Leads; Row Spacing 7.62 mm; Pitch 2.54 mm; Code_JEDEC: MS-001-AD; ComponentLink1Description: Manufacturer Link; ComponentLink1URL: http://www.freescale.com/; ComponentLink2Description: Datasheet; ComponentLink2URL: http://www.freescale.com/files/microcontrollers/doc/data_sheet/MC68HC908JB8.pdf
footprint 738-03 (DIP; 20 Leads; Row Spacing 7.62 mm; Pitch 2.54 mm)
3D model 738-03 (DIP; 20 Leads; Row Spacing 7.62 mm; Pitch 2.54 mm)
pins: 1 VSS (power), 2 OSC1 (in), 3 OSC2, 4 VREG (out), 5 VDD (power), 6 PTD0/1 (io), 7 PTE1/TCH0 (io), 8 PTE3/D+ (io), 9 PTE4/D- (io), 10 PTC0 (io), 11 ~{IRQ} (in), 12 PTA7/~{KBA}7 (io), 13 PTA6/~{KBA}6 (io), 14 PTA5/~{KBA}5 (io), 15 PTA4/~{KBA}4 (io), 16 PTA3/~{KBA}3 (io), 17 PTA2/~{KBA}2 (io), 18 PTA1/~{KBA}1 (io), 19 PTA0/~{KBA}0 (io), 20 ~{RESET} (io)

## MC68HC908JB16DW
designator U?
8-Bit Microcontroller; Published: 17-Jan-2003; LatestRevisionDate: 13-Apr-2006; LatestRevisionNote: IPC-7351 Footprint Added.; DatasheetVersion: Rev 1, 5/2002; PackageReference: 751F-03; Publisher: Altium Limited; PackageDescription: 28-Pin Small Outline Integrated Circuit 1.27 mm Pitch; ComponentLink1Description: Manufacturer Link; ComponentLink1URL: http://www.freescale.com/; ComponentLink2Description: Datasheet; ComponentLink2URL: http://www.freescale.com/files/microcontrollers/doc/data_sheet/MC68HC908JB16.pdf
footprint 751F-03_N (SOIC, 28-Leads, Body 17.9x7.5mm, Pitch 1.27mm, IPC Medium Density)
footprint 751F-03_L (SOIC, 28-Leads, Body 17.9x7.5mm, Pitch 1.27mm, IPC High Density)
footprint 751F-03_M (SOIC, 28-Leads, Body 17.9x7.5mm, Pitch 1.27mm, IPC Low Density)
3D model 751F-03 (28-Pin Small Outline Integrated Circuit 1.27 mm Pitch)
pins: 1 VSS (power), 2 OSC1 (in), 3 OSC2, 4 VREG (out), 5 VDD (power), 6 PTD0 (io), 7 PTD1 (io), 8 PTD2 (io), 9 PTD3 (io), 10 PTD4 (io), 11 PTE1/T1CH01 (io), 12 PTE3/D+ (io), 13 PTE4/D- (io), 14 PTC0/TXD (io), 15 ~{IRQ} (in), 16 PTC1/RXD (io), 17 PTD5 (io), 18 PTA7/KBA7 (io), 19 PTA6/KBA6 (io), 20 PTA5/KBA5 (io), 21 PTA4/KBA4 (io), 22 PTE2/T2CH01 (io), 23 PTE0/TCLK (io), 24 PTA3/KBA3 (io), 25 PTA2/KBA2 (io), 26 PTA1/KBA1 (io), 27 PTA0/KBA0 (io), 28 ~{RST} (io)

## MC68HC908JB16FA
designator U?
8-Bit Microcontroller; Published: 17-Jan-2003; LatestRevisionDate: 13-Apr-2006; LatestRevisionNote: IPC-7351 Footprint Added.; DatasheetVersion: Rev 1, 5/2002; PackageVersion: Aug-2001; PackageReference: 873A-02; Publisher: Altium Limited; PackageDescription: 32-Pin Thin Quad Flat Pack 0.8 mm Pitch; ComponentLink1Description: Manufacturer Link; ComponentLink1URL: http://www.freescale.com/; ComponentLink2Description: Datasheet; ComponentLink2URL: http://www.freescale.com/files/microcontrollers/doc/data_sheet/MC68HC908JB16.pdf
footprint 873A-02_N (Thin QFP, 32-Leads, Body 7x7mm, Pitch 0.8mm, IPC Medium Density)
footprint 873A-02_L (Thin QFP, 32-Leads, Body 7x7mm, Pitch 0.8mm, IPC High Density)
footprint 873A-02_M (Thin QFP, 32-Leads, Body 7x7mm, Pitch 0.8mm, IPC Low Density)
3D model MC68HC908-873A-02 (32-Pin Thin Quad Flat Pack 0.8 mm Pitch)
pins: 1 VSS (power), 2 OSC1 (in), 3 OSC2, 4 VREG (out), 5 VDD (power), 6 PTD0 (io), 7 PTE1/T1CH01 (io), 8 PTE3/D+ (io), 9 PTE4/D- (io), 10 PTC0/TXD (io), 11 ~{IRQ} (in), 12 PTC1/RXD (io), 13 PTA7/KBA7 (io), 14 PTA6/KBA6 (io), 15 PTA5/KBA5 (io), 16 PTA4/KBA4 (io), 17 PTE2/T2CH01 (io), 18 PTE0/TCLK (io), 19 PTA3/KBA3 (io), 20 PTA2/KBA2 (io), 21 PTA1/KBA1 (io), 22 PTA0/KBA0 (io), 23 CGMOUT2 (out), 24 VSSA1 (power), 25 VREGA1 (in), 26 CGMXFC2, 27 CGMXFC1, 28 VSSA0 (power), 29 VREGA0 (out), 30 VDDA (power), 31 CGMOUT1 (out), 32 ~{RST} (io)

## MC68HC908JK1CDW
designator U?
8-Bit Microcontroller; Published: 17-Jan-2003; LatestRevisionDate: 13-Apr-2006; LatestRevisionNote: IPC-7351 Footprint Added.; DatasheetVersion: Rev 1.0, 1999; PackageVersion: rev4.0, 2001; PackageReference: 751D-05; Publisher: Altium Limited; PackageDescription: 20-Pin Plastic Small Outline Integrated Circuit 1.27 mm Pitch; ComponentLink1Description: Manufacturer Link; ComponentLink1URL: http://www.freescale.com/
footprint 751D-05_N (SOIC, 20-Leads, Body 12.8x7.5mm, Pitch 1.27mm, IPC Medium Density)
footprint 751D-05_L (SOIC, 20-Leads, Body 12.8x7.5mm, Pitch 1.27mm, IPC High Density)
footprint 751D-05_M (SOIC, 20-Leads, Body 12.8x7.5mm, Pitch 1.27mm, IPC Low Density)
3D model 751D-05 (20-Pin Plastic Small Outline Integrated Circuit 1.27 mm Pitch)
pins: 1 ~{IRQ}1 (in), 2 VSS (power), 3 OSC1 (in), 4 OSC2 (in), 5 VDD (power), 6 PTB7 (io), 7 PTB6 (io), 8 PTB5 (io), 9 PTD7 (io), 10 PTD6 (io), 11 PTB4 (io), 12 PTB3 (io), 13 PTB2 (io), 14 PTB1 (io), 15 PTB0 (io), 16 PTD3 (io), 17 PTD2 (io), 18 PTD5 (io), 19 PTD4 (io), 20 ~{RST} (in)